# Altium footprint library MCU_Pack.PcbLib: 2 footprints
Each footprint in its own frame and in the unit in brackets; x right, y up, seen from the top. Pads: shape width x height; smd on the part's side, far side on the other; paste and mask are expansions set on the pad; w line width, h text height; cw(c..) or ccw(c..) is an arc to the next point about the centre after c.
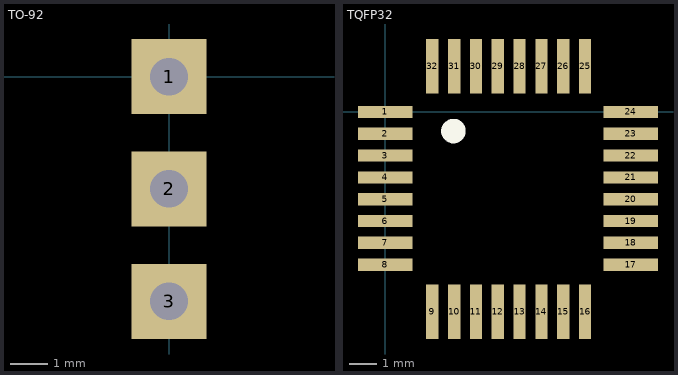
[diagram p0: the footprints below, top view; thin cyan lines are the x and y axes]

## TO-92 [mm]
pads (3):
  rect 2x2 hole 1: 1(0,0) 2(0,-3) 3(0,-6)
3D body: height 15.33, standoff -2.7, extent -1.53,-5.852 2.66,-0.112

## TQFP32 [mm]
pads (32):
  rect 2x0.45 smd: 1(0,0) 2(0,-0.8) 3(0,-1.6) 4(0,-2.4) 5(0,-3.2) 6(0,-4) 7(0,-4.8) 8(0,-5.6) 17(9,-5.6) 18(9,-4.8) 19(9,-4) 20(9,-3.2) 21(9,-2.4) 22(9,-1.6) 23(9,-0.8) 24(9,0)
  rect 0.45x2 smd: 9(1.725,-7.325) 10(2.525,-7.325) 11(3.325,-7.325) 12(4.125,-7.325) 13(4.925,-7.325) 14(5.725,-7.325) 15(6.525,-7.325) 16(7.325,-7.325) 25(7.325,1.675) 26(6.525,1.675) 27(5.725,1.675) 28(4.925,1.675) 29(4.125,1.675) 30(3.325,1.675) 31(2.525,1.675) 32(1.725,1.675)
Top Overlay:
  circle w0.5: c2.5,-0.7 r0.2
3D body: height 1.1, standoff 0, extent -0.009,-7.309 9.009,1.709